# Altium footprint library 44268 Myrra Transformer.PcbLib: 1 footprints
Each footprint in its own frame and in the unit in brackets; x right, y up, seen from the top. Pads: shape width x height; smd on the part's side, far side on the other; paste and mask are expansions set on the pad; w line width, h text height; cw(c..) or ccw(c..) is an arc to the next point about the centre after c.
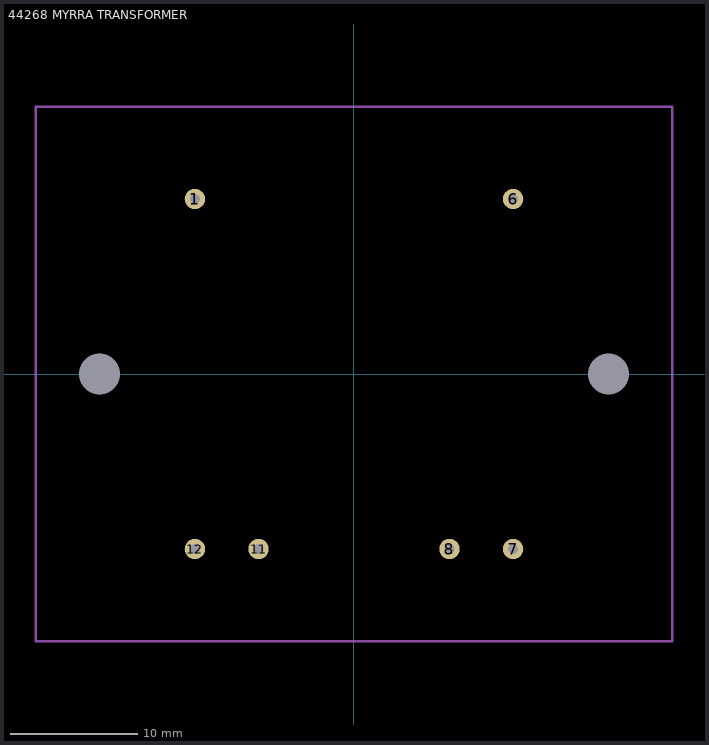
[diagram p0: the footprint, top view; thin cyan lines are the x and y axes]

## 44268 MYRRA TRANSFORMER [mm]
pads (8):
  round 1.6 hole 0.8: 1(-12.5,13.75) 6(12.5,13.75) 7(12.5,-13.75) 8(7.5,-13.75) 11(-7.5,-13.75) 12(-12.5,-13.75)
  round 2.5 hole 3.2 unplated: ""(-20,0)
  round 0 hole 3.2 unplated: ""(20,0)
Mechanical 13:
  lines w0.2: -25,-21 25,-21 25,21 -25,21 -25,-21
3D body: height 29, standoff 1, extent -25,-21 25,21
3D body: height 36, standoff 29, extent -17,-15 17,15